# Altium footprint library RESC2012X65N.PcbLib: 1 footprints
Each footprint in its own frame and in the unit in brackets; x right, y up, seen from the top. Pads: shape width x height; smd on the part's side, far side on the other; paste and mask are expansions set on the pad; w line width, h text height; cw(c..) or ccw(c..) is an arc to the next point about the centre after c.
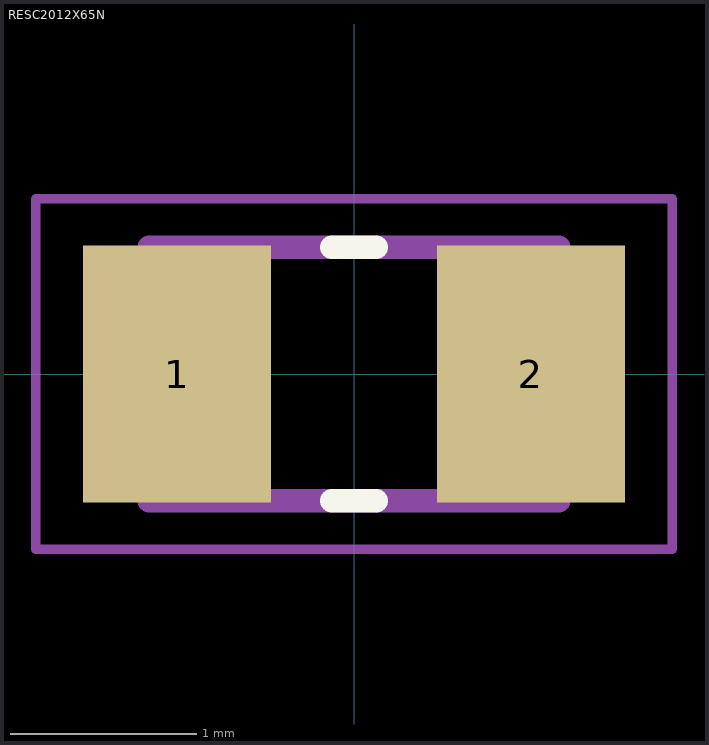
[diagram p0: the footprint, top view; thin cyan lines are the x and y axes]

## RESC2012X65N [mm]
pads (2):
  rect 1.01x1.38 smd: 1(-0.95,0) 2(0.95,0)
Top Overlay:
  lines w0.127: -0.12,-0.68 0.12,-0.68 ; -0.12,0.68 0.12,0.68
Mechanical 13:
  lines w0.127: -1.1,-0.68 1.1,-0.68 1.1,0.68 -1.1,0.68 -1.1,-0.68
Mechanical 15:
  lines w0.05: -1.708,-0.94 1.708,-0.94 1.708,0.94 -1.708,0.94 -1.708,-0.94